# Altium schematic symbol library 100x100_3_czujniki_busbar.SchLib: 4 symbols
Pins are listed as number, name and electrical type; pins without a type are passive.

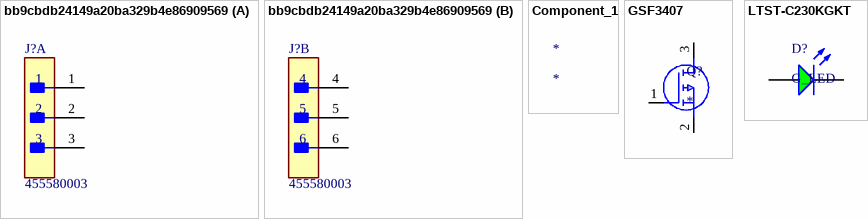
[diagram p0: symbols bb9cbdb24149a20ba329b4e86909569 to LTST-C230KGKT]

## bb9cbdb24149a20ba329b4e86909569
designator J?, comment 455580003
CONN HEADER R/A 6POS 4.2MM; Manufacturer: Molex; Standoff Height: 0.4mm; Conn Orientation: Right Angle; Number Of Contacts: 6; Conn Gender: Male; Voltage Rating: 600V; Current Rating: 8A; Footprint Url: https://www.molex.com/pdm_docs/sd/455580003_sd.pdf; Number Of Rows: 2; Lead Free: Yes; Digikey Description: CONN HEADER R/A 6POS 4.2MM; ComponentLink2URL: https://www.molex.com/webdocs/datasheets/pdf/en-us/0455580003_PCB_HEADERS.pdf; Octopart: https://octopart.com/45558-0003-molex-7672845; Package: 0; Device Class L3: unset; ComponentLink2Description: Datasheet; Device Class L2: Headers and Wire Housings; Category: Conn; Contact Material: Tin,Nickel; Mouser Description: Conn Power HDR 6 POS 4.2mm Solder ST Thru-Hole 6 Terminal 1 Port Mini-Fit Jr™ Tray; Manufacturer Part Number: 455580003; Pitch: 4.2mm; Device Class L1: Connectors; Temperature Range Low: -40°C; Temperature: -40°C to +105°C; RoHS: TRUE; Temperature Range High: +105°C; Height: 10.38mm; Automotive: No
footprint FP-455580003-MFG
part A pins: 1, 2, 3
part B pins: 4, 5, 6

## Component_1
designator *

## GSF3407
designator Q?
Mosfet, P-ch, Single, -4.1A, -30; Manufacturer: Good-Ark; Manufacturer Part Number: GSF3407; Supplier: DigiKey; Supplier Part Number: 4786-GSF3407CT-ND; Category: MOSFETs; Stock: 10489; Pricing: 1=0,1, 10=0,064, 25=0,0564, 100=0,0471, 250=0,0428, 500=0,0402, 1000=0,03806 (USD)
footprint GSF3407 (P-Channel 30 V 4.1A (Ta) 1.2W (Ta) Surface Mount SOT-23)
pins: 1 G, 2 S, 3 D

## LTST-C230KGKT
designator D?, comment G_LED
Green 571nm LED Indication - Discrete 2V 1206 (3216 Metric); Manufacturer: Lite-On; Manufacturer Part Number: LTST-C230KGKT; Forward Current: 30mA; Lens Color: Clear, Colorless; Lens Style: Clear; Luminous Intensity: 35mcd; Number of Circuits: 1; Peak Wavelength: 574nm; Power Dissipation: 75mW; Reverse Voltage: 5V; Shape: Rectangular; Test Current: 20mA; Viewing Angle: 130°; Supplier: RS; Supplier Part Number: 6921105P; RoHS: Compliant; Category: LEDs; Stock: 6300; Case/Package: 1206; Case Code (Imperial): 1206; Case Code (Metric): 3216; China RoHS: Compliant; Color: Green; Depth: 1.6mm; Dominant Wavelength: 571nm; Forward Voltage: 2V; Height: 1.1mm; Illumination Color: Green; Lead Free: Lead Free; Length: 3.2mm; Lens Transparency: Clear; Lifecycle Status: Production; Max Operating Temperature: 85°C; Min Operating Temperature: -55°C; Mounting Technology: Surface Mount; Number of Elements: 1; Number of LEDs: 1; Number of Terminals: 2; Power Rating: 75mW; Radiation Hardening: No; REACH SVHC: Yes; Schedule B: 8541402000, 8541402000|8541402000, 8541402000|8541402000|8541402000, 8541402000|8541402000|8541402000|8541402000; Terminal Pitch: 3.6mm; Wavelength: 574nm; Width: 1.6mm; ComponentLink1URL: https://datasheet.octopart.com:443/LTST-C230KGKT-Lite-On-datasheet-43775839.pdf?src-supplier=ODG+(Origin+Data+Global); ComponentLink1Description: https://datasheet.octopart.com:443/LTST-C230KGKT-Lite-On-datasheet-43775839.pdf?src-supplier=ODG+(Origin+Data+Global); ComponentLink2URL: https://datasheet.octopart.com:443/LTST-C230KGKT-Lite-On-datasheet-158343.pdf?src-supplier=Jameco; ComponentLink2Description: https://datasheet.octopart.com:443/LTST-C230KGKT-Lite-On-datasheet-158343.pdf?src-supplier=Jameco; ComponentLink3URL: https://datasheet.octopart.com:443/LTST-C230KGKT-Lite-On-datasheet-83115.pdf?src-supplier=Future+Electronics; ComponentLink3Description: https://datasheet.octopart.com:443/LTST-C230KGKT-Lite-On-datasheet-83115.pdf?src-supplier=Future+Electronics; ComponentLink4URL: https://datasheet.octopart.com:443/LTST-C230KGKT-Lite-On-datasheet-26684764.pdf?src-supplier=Future+Electronics; ComponentLink4Description: https://datasheet.octopart.com:443/LTST-C230KGKT-Lite-On-datasheet-26684764.pdf?src-supplier=Future+Electronics; ComponentLink5URL: https://datasheet.octopart.com:443/LTST-C230KGKT-Lite-On-datasheet-165573808.pdf?src-supplier=TME; ComponentLink5Description: https://datasheet.octopart.com:443/LTST-C230KGKT-Lite-On-datasheet-165573808.pdf?src-supplier=TME; ComponentLink6URL: https://datasheet.octopart.com:443/LTST-C230KGKT-Lite-On-datasheet-13697501.pdf?src-supplier=_legacy+Avnet; ComponentLink6Description: https://datasheet.octopart.com:443/LTST-C230KGKT-Lite-On-datasheet-13697501.pdf?src-supplier=_legacy+Avnet; ComponentLink7URL: https://datasheet.octopart.com:443/LTST-C230KGKT-Lite-On-datasheet-11795789.pdf?src-supplier=Arrow+Electronics; ComponentLink7Description: https://datasheet.octopart.com:443/LTST-C230KGKT-Lite-On-datasheet-11795789.pdf?src-supplier=Arrow+Electronics
footprint LEDC3216X120N
pins: 1 A, 2 K